# Altium schematic symbol library LT8722AV#PBF.SchLib: 1 symbol
Pins are listed as number, name and electrical type; pins without a type are passive.

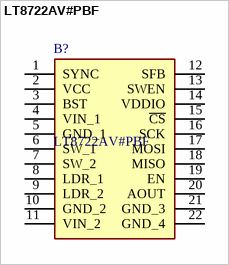
[diagram p0: symbol LT8722AV#PBF]

## LT8722AV#PBF
designator B?
Demonstration circuit 3145A demonstrates a high efficiency thermoelectric cooler driver and features the LT8722 monolithic driver.; Manufacturer_Name: Analog Devices; Geometry.Height: 1.05mm; Manufacturer_Part_Number: LT8722AV#PBF; Mouser Part Number: 584-LT8722AVPBF; Mouser Price/Stock: https://www.mouser.co.uk/ProductDetail/Analog-Devices/LT8722AVPBF?qs=4ASt3YYao0VrHs25JzE8rA%3D%3D; Arrow Part Number: *; Arrow Price/Stock: *; Datasheet Link: https://www.analog.com/media/en/technical-documentation/data-sheets/lt8722.pdf
footprint LT8722AVPBF
pins: 1 SYNC, 2 VCC, 3 BST, 4 VIN_1, 5 GND_1, 6 SW_1, 7 SW_2, 8 LDR_1, 9 LDR_2, 10 GND_2, 11 VIN_2, 12 SFB, 13 SWEN, 14 VDDIO, 15 ~{CS}, 16 SCK, 17 MOSI, 18 MISO, 19 EN, 20 AOUT, 21 GND_3, 22 GND_4